# Altium schematic symbol library graphic-mixed.SchLib: 1 symbol
Pins are listed as number, name and electrical type; pins without a type are passive.

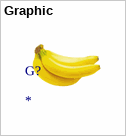
[diagram p0: symbol Graphic]

## Graphic
designator G?
Single image of bananas at (0,0)